# Altium schematic symbol library jlcpcb_basic_resistors.schlib: 256 symbols (part 5 of 5)
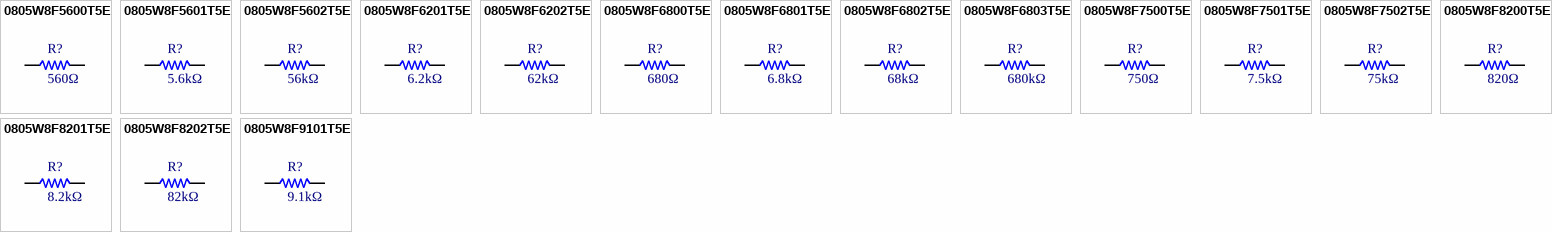
[diagram p10: symbols 0805W8F5600T5E to 0805W8F9101T5E]

## 0805W8F6202T5E
designator R?  Resistance: 62kΩ  (hidden comment: *)
Resistor, 62kΩ, ±1%, 125mW, 150V, ±100ppm/°C, -55°C to +155°C, SMD 0805; Manufacturer: Uniroyal; Manufacturer Part Number: 0805W8F6202T5E; Supplier 1: LCSC; Supplier Part Number 1: C17783; LCSC Part Number: C17783; Power Rating: 125mW; Category: Resistors; Package Size: 0805; JLCPCB Basic Part: Yes; Tolerance: ±1%; Voltage Rating: 150V; Temperature Coefficient: ±100ppm/°C; Temperature Rating: -55°C to +155°C; ComponentLink1Description: Datasheet; ComponentLink1URL: https://datasheet.lcsc.com/lcsc/2205311830_UNI-ROYAL-Uniroyal-Elec-0805W8F6202T5E_C17783.pdf; ComponentLink2Description: JLCPCB Part URL; ComponentLink2URL: https://jlcpcb.com/partdetail/18471-0805W8F6202T5E/C17783
footprint RES-0805 (0805 (2012M) Resistor)
pins: 1, 2

## 0805W8F6800T5E
designator R?  Resistance: 680Ω  (hidden comment: *)
Resistor, 680Ω, ±1%, 125mW, 150V, ±100ppm/°C, -55°C to +155°C, SMD 0805; Manufacturer: Uniroyal; Manufacturer Part Number: 0805W8F6800T5E; Supplier 1: LCSC; Supplier Part Number 1: C17798; LCSC Part Number: C17798; Power Rating: 125mW; Category: Resistors; Package Size: 0805; JLCPCB Basic Part: Yes; Tolerance: ±1%; Voltage Rating: 150V; Temperature Coefficient: ±100ppm/°C; Temperature Rating: -55°C to +155°C; ComponentLink1Description: Datasheet; ComponentLink1URL: https://datasheet.lcsc.com/lcsc/2205311830_UNI-ROYAL-Uniroyal-Elec-0805W8F6800T5E_C17798.pdf; ComponentLink2Description: JLCPCB Part URL; ComponentLink2URL: https://jlcpcb.com/partdetail/18486-0805W8F6800T5E/C17798
footprint RES-0805 (0805 (2012M) Resistor)
pins: 1, 2

## 0805W8F6801T5E
designator R?  Resistance: 6.8kΩ  (hidden comment: *)
Resistor, 6.8kΩ, ±1%, 125mW, 150V, ±100ppm/°C, -55°C to +155°C, SMD 0805; Manufacturer: Uniroyal; Manufacturer Part Number: 0805W8F6801T5E; Supplier 1: LCSC; Supplier Part Number 1: C17772; LCSC Part Number: C17772; Power Rating: 125mW; Category: Resistors; Package Size: 0805; JLCPCB Basic Part: Yes; Tolerance: ±1%; Voltage Rating: 150V; Temperature Coefficient: ±100ppm/°C; Temperature Rating: -55°C to +155°C; ComponentLink1Description: Datasheet; ComponentLink1URL: https://datasheet.lcsc.com/lcsc/2205311830_UNI-ROYAL-Uniroyal-Elec-0805W8F6801T5E_C17772.pdf; ComponentLink2Description: JLCPCB Part URL; ComponentLink2URL: https://jlcpcb.com/partdetail/18460-0805W8F6801T5E/C17772
footprint RES-0805 (0805 (2012M) Resistor)
pins: 1, 2

## 0805W8F6802T5E
designator R?  Resistance: 68kΩ  (hidden comment: *)
Resistor, 68kΩ, ±1%, 125mW, 150V, ±100ppm/°C, -55°C to +155°C, SMD 0805; Manufacturer: Uniroyal; Manufacturer Part Number: 0805W8F6802T5E; Supplier 1: LCSC; Supplier Part Number 1: C17801; LCSC Part Number: C17801; Power Rating: 125mW; Category: Resistors; Package Size: 0805; JLCPCB Basic Part: Yes; Tolerance: ±1%; Voltage Rating: 150V; Temperature Coefficient: ±100ppm/°C; Temperature Rating: -55°C to +155°C; ComponentLink1Description: Datasheet; ComponentLink1URL: https://datasheet.lcsc.com/lcsc/2205311830_UNI-ROYAL-Uniroyal-Elec-0805W8F6802T5E_C17801.pdf; ComponentLink2Description: JLCPCB Part URL; ComponentLink2URL: https://jlcpcb.com/partdetail/18489-0805W8F6802T5E/C17801
footprint RES-0805 (0805 (2012M) Resistor)
pins: 1, 2

## 0805W8F6803T5E
designator R?  Resistance: 680kΩ  (hidden comment: *)
Resistor, 680kΩ, ±1%, 125mW, 150V, ±100ppm/°C, -55°C to +155°C, SMD 0805; Manufacturer: Uniroyal; Manufacturer Part Number: 0805W8F6803T5E; Supplier 1: LCSC; Supplier Part Number 1: C17797; LCSC Part Number: C17797; Power Rating: 125mW; Category: Resistors; Package Size: 0805; JLCPCB Basic Part: Yes; Tolerance: ±1%; Voltage Rating: 150V; Temperature Coefficient: ±100ppm/°C; Temperature Rating: -55°C to +155°C; ComponentLink1Description: Datasheet; ComponentLink1URL: https://datasheet.lcsc.com/lcsc/2205311830_UNI-ROYAL-Uniroyal-Elec-0805W8F6803T5E_C17797.pdf; ComponentLink2Description: JLCPCB Part URL; ComponentLink2URL: https://jlcpcb.com/partdetail/18485-0805W8F6803T5E/C17797
footprint RES-0805 (0805 (2012M) Resistor)
pins: 1, 2

## 0805W8F7500T5E
designator R?  Resistance: 750Ω  (hidden comment: *)
Resistor, 750Ω, ±1%, 125mW, 150V, ±100ppm/°C, -55°C to +155°C, SMD 0805; Manufacturer: Uniroyal; Manufacturer Part Number: 0805W8F7500T5E; Supplier 1: LCSC; Supplier Part Number 1: C17818; LCSC Part Number: C17818; Power Rating: 125mW; Category: Resistors; Package Size: 0805; JLCPCB Basic Part: Yes; Tolerance: ±1%; Voltage Rating: 150V; Temperature Coefficient: ±100ppm/°C; Temperature Rating: -55°C to +155°C; ComponentLink1Description: Datasheet; ComponentLink1URL: https://datasheet.lcsc.com/lcsc/2205311830_UNI-ROYAL-Uniroyal-Elec-0805W8F7500T5E_C17818.pdf; ComponentLink2Description: JLCPCB Part URL; ComponentLink2URL: https://jlcpcb.com/partdetail/18506-0805W8F7500T5E/C17818
footprint RES-0805 (0805 (2012M) Resistor)
pins: 1, 2

## 0805W8F7501T5E
designator R?  Resistance: 7.5kΩ  (hidden comment: *)
Resistor, 7.5kΩ, ±1%, 125mW, 150V, ±100ppm/°C, -55°C to +155°C, SMD 0805; Manufacturer: Uniroyal; Manufacturer Part Number: 0805W8F7501T5E; Supplier 1: LCSC; Supplier Part Number 1: C17807; LCSC Part Number: C17807; Power Rating: 125mW; Category: Resistors; Package Size: 0805; JLCPCB Basic Part: Yes; Tolerance: ±1%; Voltage Rating: 150V; Temperature Coefficient: ±100ppm/°C; Temperature Rating: -55°C to +155°C; ComponentLink1Description: Datasheet; ComponentLink1URL: https://datasheet.lcsc.com/lcsc/2205311830_UNI-ROYAL-Uniroyal-Elec-0805W8F7501T5E_C17807.pdf; ComponentLink2Description: JLCPCB Part URL; ComponentLink2URL: https://jlcpcb.com/partdetail/18495-0805W8F7501T5E/C17807
footprint RES-0805 (0805 (2012M) Resistor)
pins: 1, 2

## 0805W8F7502T5E
designator R?  Resistance: 75kΩ  (hidden comment: *)
Resistor, 75kΩ, ±1%, 125mW, 150V, ±100ppm/°C, -55°C to +155°C, SMD 0805; Manufacturer: Uniroyal; Manufacturer Part Number: 0805W8F7502T5E; Supplier 1: LCSC; Supplier Part Number 1: C17819; LCSC Part Number: C17819; Power Rating: 125mW; Category: Resistors; Package Size: 0805; JLCPCB Basic Part: Yes; Tolerance: ±1%; Voltage Rating: 150V; Temperature Coefficient: ±100ppm/°C; Temperature Rating: -55°C to +155°C; ComponentLink1Description: Datasheet; ComponentLink1URL: https://datasheet.lcsc.com/lcsc/2205311830_UNI-ROYAL-Uniroyal-Elec-0805W8F7502T5E_C17819.pdf; ComponentLink2Description: JLCPCB Part URL; ComponentLink2URL: https://jlcpcb.com/partdetail/18507-0805W8F7502T5E/C17819
footprint RES-0805 (0805 (2012M) Resistor)
pins: 1, 2

## 0805W8F8200T5E
designator R?  Resistance: 820Ω  (hidden comment: *)
Resistor, 820Ω, ±1%, 125mW, 150V, ±100ppm/°C, -55°C to +155°C, SMD 0805; Manufacturer: Uniroyal; Manufacturer Part Number: 0805W8F8200T5E; Supplier 1: LCSC; Supplier Part Number 1: C17837; LCSC Part Number: C17837; Power Rating: 125mW; Category: Resistors; Package Size: 0805; JLCPCB Basic Part: Yes; Tolerance: ±1%; Voltage Rating: 150V; Temperature Coefficient: ±100ppm/°C; Temperature Rating: -55°C to +155°C; ComponentLink1Description: Datasheet; ComponentLink1URL: https://datasheet.lcsc.com/lcsc/2205311830_UNI-ROYAL-Uniroyal-Elec-0805W8F8200T5E_C17837.pdf; ComponentLink2Description: JLCPCB Part URL; ComponentLink2URL: https://jlcpcb.com/partdetail/18525-0805W8F8200T5E/C17837
footprint RES-0805 (0805 (2012M) Resistor)
pins: 1, 2

## 0805W8F8201T5E
designator R?  Resistance: 8.2kΩ  (hidden comment: *)
Resistor, 8.2kΩ, ±1%, 125mW, 150V, ±100ppm/°C, -55°C to +155°C, SMD 0805; Manufacturer: Uniroyal; Manufacturer Part Number: 0805W8F8201T5E; Supplier 1: LCSC; Supplier Part Number 1: C17828; LCSC Part Number: C17828; Power Rating: 125mW; Category: Resistors; Package Size: 0805; JLCPCB Basic Part: Yes; Tolerance: ±1%; Voltage Rating: 150V; Temperature Coefficient: ±100ppm/°C; Temperature Rating: -55°C to +155°C; ComponentLink1Description: Datasheet; ComponentLink1URL: https://datasheet.lcsc.com/lcsc/2205311830_UNI-ROYAL-Uniroyal-Elec-0805W8F8201T5E_C17828.pdf; ComponentLink2Description: JLCPCB Part URL; ComponentLink2URL: https://jlcpcb.com/partdetail/18516-0805W8F8201T5E/C17828
footprint RES-0805 (0805 (2012M) Resistor)
pins: 1, 2

## 0805W8F8202T5E
designator R?  Resistance: 82kΩ  (hidden comment: *)
Resistor, 82kΩ, ±1%, 125mW, 150V, ±100ppm/°C, -55°C to +155°C, SMD 0805; Manufacturer: Uniroyal; Manufacturer Part Number: 0805W8F8202T5E; Supplier 1: LCSC; Supplier Part Number 1: C17840; LCSC Part Number: C17840; Power Rating: 125mW; Category: Resistors; Package Size: 0805; JLCPCB Basic Part: Yes; Tolerance: ±1%; Voltage Rating: 150V; Temperature Coefficient: ±100ppm/°C; Temperature Rating: -55°C to +155°C; ComponentLink1Description: Datasheet; ComponentLink1URL: https://datasheet.lcsc.com/lcsc/2205311830_UNI-ROYAL-Uniroyal-Elec-0805W8F8202T5E_C17840.pdf; ComponentLink2Description: JLCPCB Part URL; ComponentLink2URL: https://jlcpcb.com/partdetail/18528-0805W8F8202T5E/C17840
footprint RES-0805 (0805 (2012M) Resistor)
pins: 1, 2

## 0805W8F9101T5E
designator R?  Resistance: 9.1kΩ  (hidden comment: *)
Resistor, 9.1kΩ, ±1%, 125mW, 150V, ±100ppm/°C, -55°C to +155°C, SMD 0805; Manufacturer: Uniroyal; Manufacturer Part Number: 0805W8F9101T5E; Supplier 1: LCSC; Supplier Part Number 1: C17855; LCSC Part Number: C17855; Power Rating: 125mW; Category: Resistors; Package Size: 0805; JLCPCB Basic Part: Yes; Tolerance: ±1%; Voltage Rating: 150V; Temperature Coefficient: ±100ppm/°C; Temperature Rating: -55°C to +155°C; ComponentLink1Description: Datasheet; ComponentLink1URL: https://datasheet.lcsc.com/lcsc/2206010200_UNI-ROYAL-Uniroyal-Elec-0805W8F9101T5E_C17855.pdf; ComponentLink2Description: JLCPCB Part URL; ComponentLink2URL: https://jlcpcb.com/partdetail/18543-0805W8F9101T5E/C17855
footprint RES-0805 (0805 (2012M) Resistor)
pins: 1, 2